# EAGLE library part LM27762 (library m_vreg)
The LM27762 delivers very low-noise positive and negative outputs that are adjustable between ±1.5 V and ±5 V. Input-voltage range is from 2.7 V to 5.5 V, and output current goes up to ±250 mA. With an operating current of only 390 μA and 0.5-μA typical shutdown current, the LM27762 provides ideal performance for power amplifier and DAC bias and other high-current, low-noise negative voltage needs. The device provides a small solution size with few external components. http://www.ti.com/lit/ds/symlink/lm27762.pdf
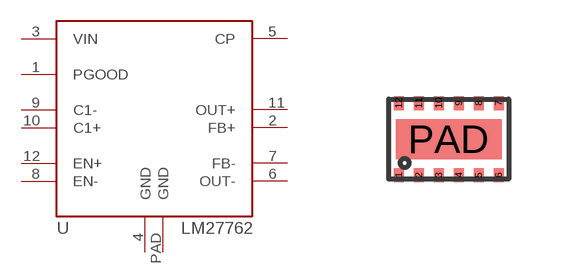
[diagram p14: symbol with the pads of R-PWSON-N12; footprint R-PWSON-N12]

Designator prefix U

## LM27762 (MANUF: TEXAS INSTRUMENTS; PARTNUM: LM27762)  [R-PWSON-N12]
1  PGOOD
2  FB+
3  VIN
4  GND
5  CP
6  OUT-
7  FB-
8  EN-
9  C1-
10  C1+
11  OUT+
12  EN+
PAD  GND

## Footprint R-PWSON-N12 (pad centres in mm)
smd 0.25 x 0.35: 1 -1.25,-0.9; 2 -0.75,-0.9; 3 -0.25,-0.9; 4 0.25,-0.9; 5 0.75,-0.9; 6 1.25,-0.9; 7 1.25,0.9; 8 0.75,0.9; 9 0.25,0.9; 10 -0.25,0.9; 11 -0.75,0.9; 12 -1.25,0.9
smd 2.65 x 1: PAD 0,0